# Altium footprint library CONN_JACKAV.PcbLib: 27 footprints (part 2 of 2)
Each footprint in its own frame and in the unit in brackets; x right, y up, seen from the top. Pads: shape width x height; smd on the part's side, far side on the other; paste and mask are expansions set on the pad; w line width, h text height; cw(c..) or ccw(c..) is an arc to the next point about the centre after c.
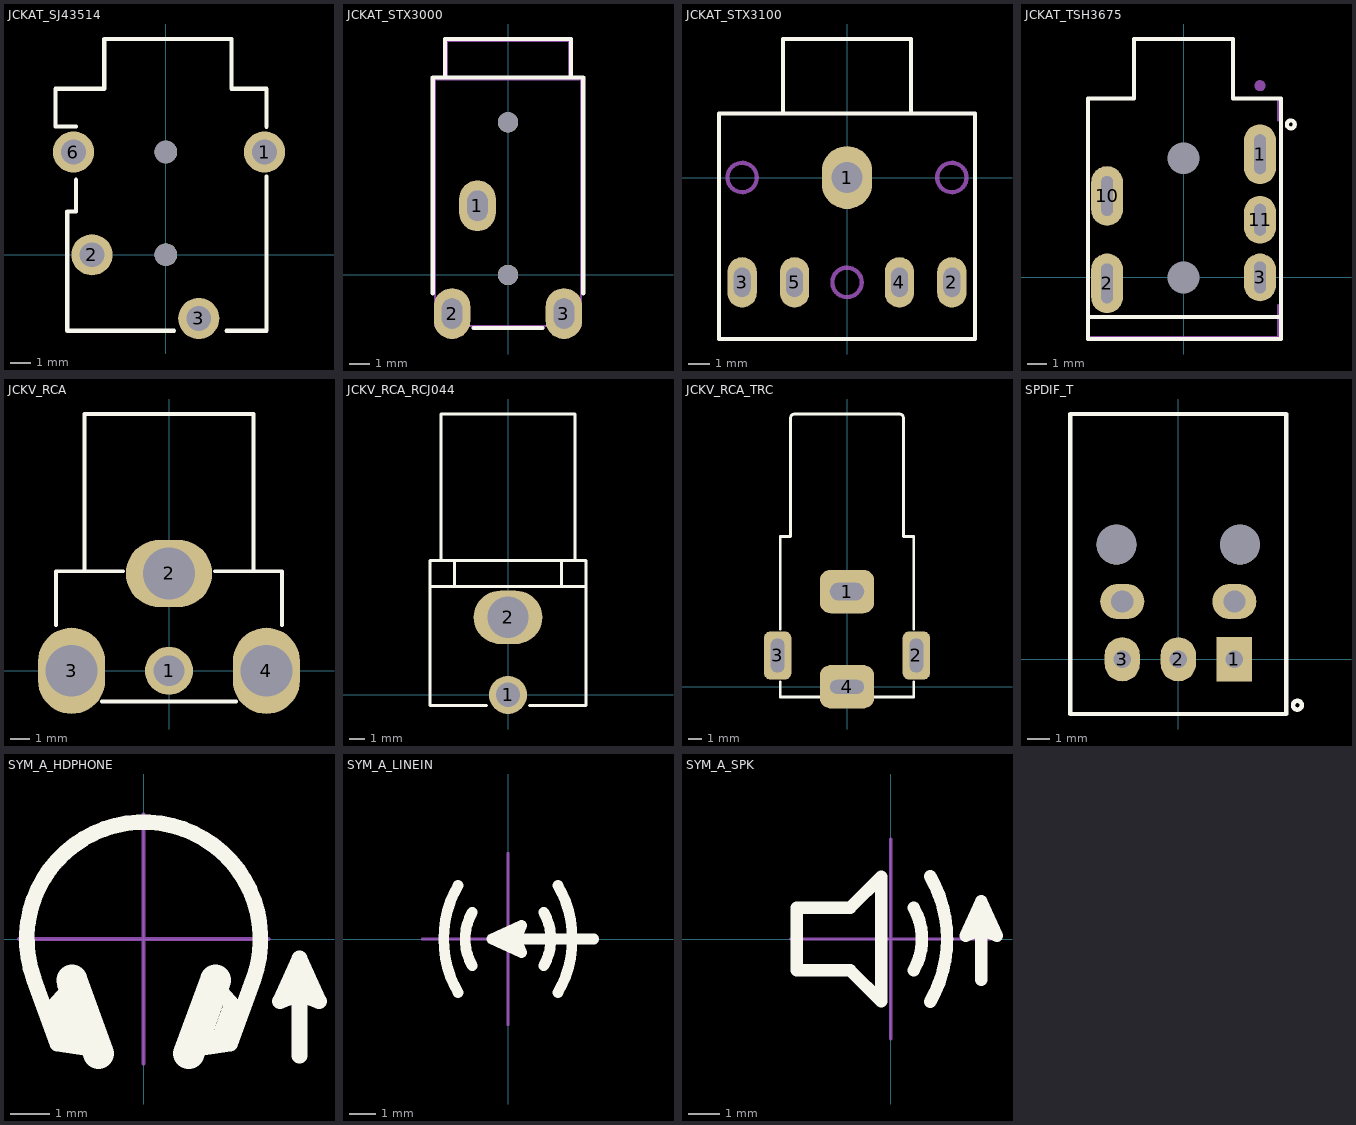
[diagram p1: the footprints below, top view; thin cyan lines are the x and y axes]

## JCKAT_SJ43514 [mm] "Audio_JACK_RA_TH_SJ-43514"
height 1.2
pads (6):
  round 2 hole 1.2: 1(4.8,5) 2(-3.6,0) 3(1.6,-3.1) 6(-4.5,5)
  round 1.1 hole 1.1 unplated: " "(0,0) " "(0,5)
Top Overlay:
  lines w0.2: -4.38,3.65 -4.38,2.1 -4.8,2.1 -4.8,-3.7 0.4,-3.7 ; -4.37,6.25 -5.37,6.25 -5.37,8.08 -3,8.08 -3,10.5 3.2,10.5 3.2,8.08 4.9,8.08 4.9,6.23 ; 2.95,-3.7 4.9,-3.7 4.9,3.8
3D body "sj-43514.stp": height 5.2, standoff -2.05, extent -5.3,-3.6 4.9,10.4

## JCKAT_STX3000 [mm] "STX-3000 Audio Jack"
pads (5):
  oval 1.8x2.5 hole 1 slot 1.5 at 90 deg: 1(-1.5,3.4) 2(-2.75,-1.9) 3(2.75,-1.9)
  round 1 hole 1 unplated: ""(0,0) ""(0,7.5)
Top Overlay:
  lines w0.2: -3.7,-0.9 -3.7,9.7 3.7,9.7 3.7,-0.9 ; -3.1,9.7 -3.1,11.6 3.1,11.6 3.1,9.7 ; -1.7,-2.6 1.7,-2.6
Mechanical 13:
  lines w0.1: -3,9.6 -3,11.5 3,11.5 3,9.6 ; -3.6,-2.5 -3.6,9.6 3.6,9.6 3.6,-2.5 -3.6,-2.5
3D body "STX-3000_rD3.STEP": height 5.9, standoff -2.8, extent -3.6,-2.5 3.6,11.5

## JCKAT_STX3100 [mm] "Jack, Audio, Stereo, 3.5mm, RA, THD"
pads (5):
  oval 2.4x3 hole 1.5: 1(0,0)
  oval 1.4x2.4 hole 0.8 slot 1.4 at 90 deg: 2(5,-5) 3(-5,-5) 4(2.5,-5) 5(-2.5,-5)
Top Overlay:
  lines w0.2: -3.048,3.048 -3.048,6.604 3.048,6.604 3.048,3.048 ; -6.1,-7.7 6.096,-7.7 6.096,3.048 0,3.048 -6.1,3.048 -6.1,-7.7
Mechanical 1:
  circle w0.2: c-5,0 r0.7
  circle w0.2: c5,0 r0.7
  circle w0.2: c0,-5 r0.7
3D body "SW3dPS-STX-3100-5C.STEP": height 10, standoff -3.6, extent -6,-7.6 6,6.533

## JCKAT_TSH3675 [mm] "Jack, Audio, Stereo, 3.5mm, RA, THD, TSH3675"
height 7
pads (7):
  oval 1.6x3 hole 0.6 slot 2 at 90 deg: 1(3.85,6.2) 2(-3.85,-0.3) 10(-3.85,4.1)
  oval 1.6x2.4 hole 0.6 slot 1.6 at 90 deg: 3(3.85,0) 11(3.85,2.9)
  round 1.3 hole 1.6 unplated: ""(0,0) ""(0,6)
Top Overlay:
  circle w0.2: c5.4,7.7 r0.2
  lines w0.2: -4.8,-3.1 -4.8,-1.95 -4.8,9 -2.5,9 -2.5,12 2.5,12 2.5,9 4.9,9 4.9,-3.1 -4.8,-3.1
  lines w0.203: -4.75,-2.001 4.9,-2.001
Bottom Overlay:
  region: 2.596,9.931 -2.611,9.931 -2.611,8 2.596,8
  rectangle: -2.925,-0.682 -2.747,0.082
  rectangle: -2.925,3.718 -2.747,4.482
  region: 2.925,0.382 2.747,0.382 2.747,-0.382 2.925,-0.382
  region: 2.925,3.282 2.747,3.282 2.747,2.518 2.925,2.518
  region: 2.925,6.582 2.747,6.582 2.747,5.818 2.925,5.818
  region: 2.468,7.636 -4.54,7.636 -4.54,7.039 2.468,7.039
  lines w0.2: -4.95,-2 -4.95,8 4.95,8 4.95,-2 -4.95,-2
  lines w0.203: -2.823,-0.288 -1.312,-0.288 -1.025,-0.288 ; -2.777,4.131 -1.381,4.131 ; -2.155,3.814 -1.381,4.131 ; -2.155,4.449 -1.381,4.131 ; -1.012,-0.276 -1.012,0.02 -1.012,0.683 ; -1.012,0.683 -1.012,4.899 -2.149,5.472 -1.012,6.042 -1.012,6.474 ; 0.944,0.02 0.944,0.683 ; 0.944,0.683 0.944,3.68 2.081,4.253 0.944,4.823 0.944,5.255 ; 0.952,0.012 1.312,0.012 2.823,0.012 ; 1.425,7.292 1.425,6.2 2.816,6.2 ; 2.087,2.594 1.312,2.912 ; 2.087,3.229 1.312,2.912 ; 2.823,2.912 1.312,2.912
  text "R" at 1.774,-0.709 h0.86
  text "L" at -2.239,-0.709 h0.86
Mechanical 7:
  circle w0.3: c3.85,9.65 r0.125
  lines w0.1: -4.75,-2 -4.75,-3 4.75,-3 4.75,-1.4 ; -4.75,5.6 -4.75,9 -2.5,9 -2.5,12 2.5,12 2.5,9 4.75,9 4.75,7.9
3D body: height 0, standoff -2, extent -4.471,-0.481 -3.18,-0.176
3D body: height 0, standoff -2, extent 3.205,5.999 4.496,6.304
3D body: height 0, standoff -2, extent -4.425,3.966 -3.361,4.27
3D body: height 0, standoff -2, extent 3.308,2.739 4.373,3.043
3D body: height 0, standoff -2, extent 3.33,-0.172 4.394,0.132
3D body "stereojackblack3-5.STEP": height 5, standoff 0, extent -4.725,-3.025 4.775,11.975

## JCKV_RCA [mm] "RCA PHONO JACK VIDEO KEYSTONE 901"
pads (4):
  round 2.5 hole 1.6: 1(0,0)
  oval 4.5x3.5 hole 2.7: 2(0,5.08)
  oval 3.5x4.5 hole 2.7: 3(-5.08,0) 4(5.08,0)
Top Overlay:
  lines w0.2: -5.9,2.4 -5.9,5.2 -2.4,5.2 ; -4.4,5.2 -4.4,13.4 4.4,13.4 4.4,5.2 ; -3.5,-1.6 3.5,-1.6 ; 2.4,5.2 5.9,5.2 5.9,2.4
3D body "rcj-017.stp": height 12.1, standoff -4.1, extent -5.8,-1.25 5.8,13.25

## JCKV_RCA_RCJ044 [mm] "RCA PHONO JACK VIDEO CUI, RCJ-044"
pads (2):
  round 2.5 hole 1.6: 1(0,0)
  oval 4.5x3.5 hole 2.7: 2(0,5.08)
Top Overlay:
  lines w0.2: -4.4,8.8 -4.4,18.4 4.4,18.4 4.4,8.8 ; -3.5,7.1 -3.5,8.8 ; -1.4,-0.7 -5.1,-0.7 -5.1,7.1 ; 1.4,-0.7 5.1,-0.7 5.1,7.1 ; 3.5,7.1 3.5,8.8 ; -5.1,7.1 -5.1,8.8 5.1,8.8 5.1,7.1 ; -5.1,7.1 5.1,7.1
3D body "rcj-044.stp": height 12, standoff -3.5, extent -5,-1.25 5,18.25

## JCKV_RCA_TRC [mm] "TRC Video Connector"
height 3
pads (4):
  rrect50% 4x3.2 hole 1.3 slot 2.5 at 0 deg: 1(0,7)
  rrect50% 2.032x3.556 hole 1 slot 2.5 at 90 deg: 2(5.1,2.3) 3(-5.1,2.3)
  rrect50% 4x3.2 hole 1 slot 2.5 at 0 deg: 4(0,0)
Top Overlay:
  lines w0.2: -4.9,0.365 -4.9,-0.75 -1.69,-0.75 ; -4.9,4.235 -4.9,11.05 -4.15,11.05 -4.15,19.75 cw(c-3.85,19.75) -3.85,20.05 3.85,20.05 cw(c3.85,19.75) 4.15,19.75 4.15,11.05 4.9,11.05 4.9,4.235 ; 1.69,-0.75 4.9,-0.75 4.9,0.365
3D body: height 3, standoff 0, extent 2.451,5.517 4.001,7.067
3D body "RCA Phono Jack.stp": height 13.58, standoff -4.84, extent -5.265,-0.483 5.519,20.019

## SPDIF_T [mm] "PLT133/T10W, PLT237-T10WH, FCR684208T"
pads (7):
  rect 1.6x2 hole 0.8: 1(2.54,0)
  oval 1.6x2 hole 0.8: 2(0,0) 3(-2.54,0)
  round 1.8 hole 1.8 unplated: ""(-2.8,5.2) ""(2.8,5.2)
  oval 2x1.6 hole 1: ""(-2.54,2.62) ""(2.54,2.62)
Top Overlay:
  circle w0.2: c5.4,-2.08 r0.2
  lines w0.2: -4.9,-2.48 4.9,-2.48 4.9,11.12 -4.9,11.12 -4.9,-2.48
3D body "T10W.STEP": height 10.3, standoff -4.35, extent -4.85,-2.38 4.85,11.12

## SYM_A_HDPHONE [mm] "Symbol, Audio, HeadPhone"
Top Overlay:
  lines w0.4: -2.489,-1.934 -1.808,-1.154 ; -2.258,-1.67 -1.893,-2.675 ; -1.192,-2.846 -2.215,-2.686 -2.819,-1.026 cw(c0,0) 2.819,-1.026 2.215,-2.686 1.192,-2.846 ; 1.808,-1.154 2.489,-1.934 ; 1.893,-2.675 2.258,-1.67 ; 4,-3 4,-0.5 ; 4,-0.5 4.5,-1.6 4,-1.4 3.5,-1.6 4,-0.5
  lines w0.8: -1.842,-1.06 -1.158,-2.94 ; 1.158,-2.94 1.842,-1.06
Mechanical 1:
  lines w0.1: -3.2,0 3.2,0 ; 0,-3.2 0,3.2

## SYM_A_LINEIN [mm] "Symbol, Audio, LineIN"
Top Overlay:
  lines w0.4: -1.864,-2 cw(c1.6,0) -1.864,2 ; -1.332,-1 cw(c0.4,0) -1.332,1 ; 1.332,-1 ccw(c-0.4,0) 1.332,1 ; 1.864,-2 ccw(c-1.6,0) 1.864,2 ; 3.2,0 -0.6,0 ; -0.6,0 0.5,0.5 0.3,0 0.5,-0.5 -0.6,0
Mechanical 1:
  lines w0.1: -3.2,0 3.2,0 ; 0,-3.2 0,3.2

## SYM_A_SPK [mm]
Top Overlay:
  lines w0.4: 0.732,-1 ccw(c-1,0) 0.732,1 ; 1.264,-2 ccw(c-2.2,0) 1.264,2 ; 2.9,-1.3 2.9,1.2 ; 2.9,1.2 3.4,0.1 2.9,0.3 2.4,0.1 2.9,1.2 ; -3,-1 -1.3,-1 -0.3,-2 -0.3,2 -1.3,1 -3,1 -3,-1
Mechanical 1:
  lines w0.1: -3.2,0 3.2,0 ; 0,-3.2 0,3.2